# EAGLE library part ENC28J60/SO (library ENC28J60_SO)
Stand-Alone Ethernet Controller;
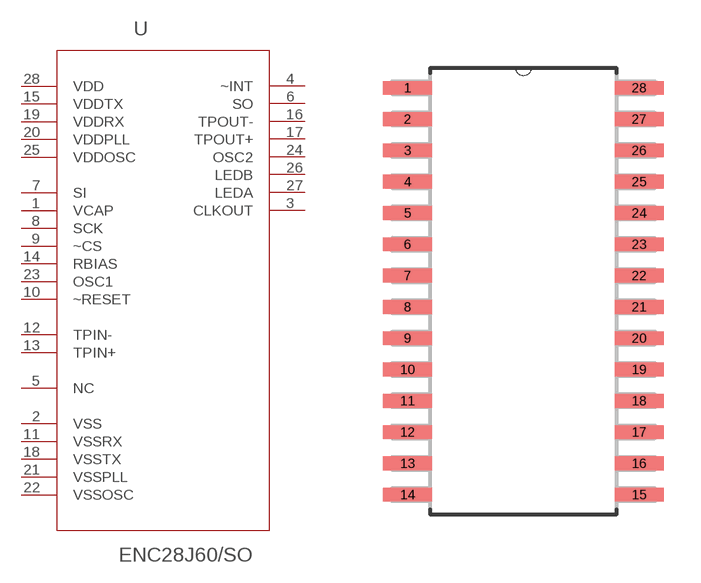
[diagram p0: symbol with the pads of SOIC127P1034X264-28N; footprint SOIC127P1034X264-28N]

Designator prefix -

## ENC28J60/SO (Availability: Unavailable; Description: Ethernet Controller 10 Base-T PHY SPI Interface 28-SSOP; MF: Microchip; MP: ENC28J60/SS; Package: SSOP-28 Microchip; Price: None)  [SOIC127P1034X264-28N]
1  VCAP  in
2  VSS  pwr
3  CLKOUT  out
4  ~INT  out
5  NC  nc
6  SO  out
7  SI  in
8  SCK  in
9  ~CS  in
10  ~RESET  in
11  VSSRX  pwr
12  TPIN-  in
13  TPIN+  in
14  RBIAS  in
15  VDDTX  pwr
16  TPOUT-  out
17  TPOUT+  out
18  VSSTX  pwr
19  VDDRX  pwr
20  VDDPLL  pwr
21  VSSPLL  pwr
22  VSSOSC  pwr
23  OSC1  in
24  OSC2  out
25  VDDOSC  pwr
26  LEDB  out
27  LEDA  out
28  VDD  pwr

## Footprint SOIC127P1034X264-28N (pad centres in mm)
smd 1.981 x 0.559: 1 -4.699,8.255; 2 -4.699,6.985; 3 -4.699,5.715; 4 -4.699,4.445; 5 -4.699,3.175; 6 -4.699,1.905; 7 -4.699,0.635; 8 -4.699,-0.635; 9 -4.699,-1.905; 10 -4.699,-3.175; 11 -4.699,-4.445; 12 -4.699,-5.715; 13 -4.699,-6.985; 14 -4.699,-8.255; 15 4.699,-8.255; 16 4.699,-6.985; 17 4.699,-5.715; 18 4.699,-4.445; 19 4.699,-3.175; 20 4.699,-1.905; 21 4.699,-0.635; 22 4.699,0.635; 23 4.699,1.905; 24 4.699,3.175; 25 4.699,4.445; 26 4.699,5.715; 27 4.699,6.985; 28 4.699,8.255